# Altium schematic symbol library WR-USB_USB 2.0.SchLib: 29 symbols
Pins are listed as number, name and electrical type; pins without a type are passive.

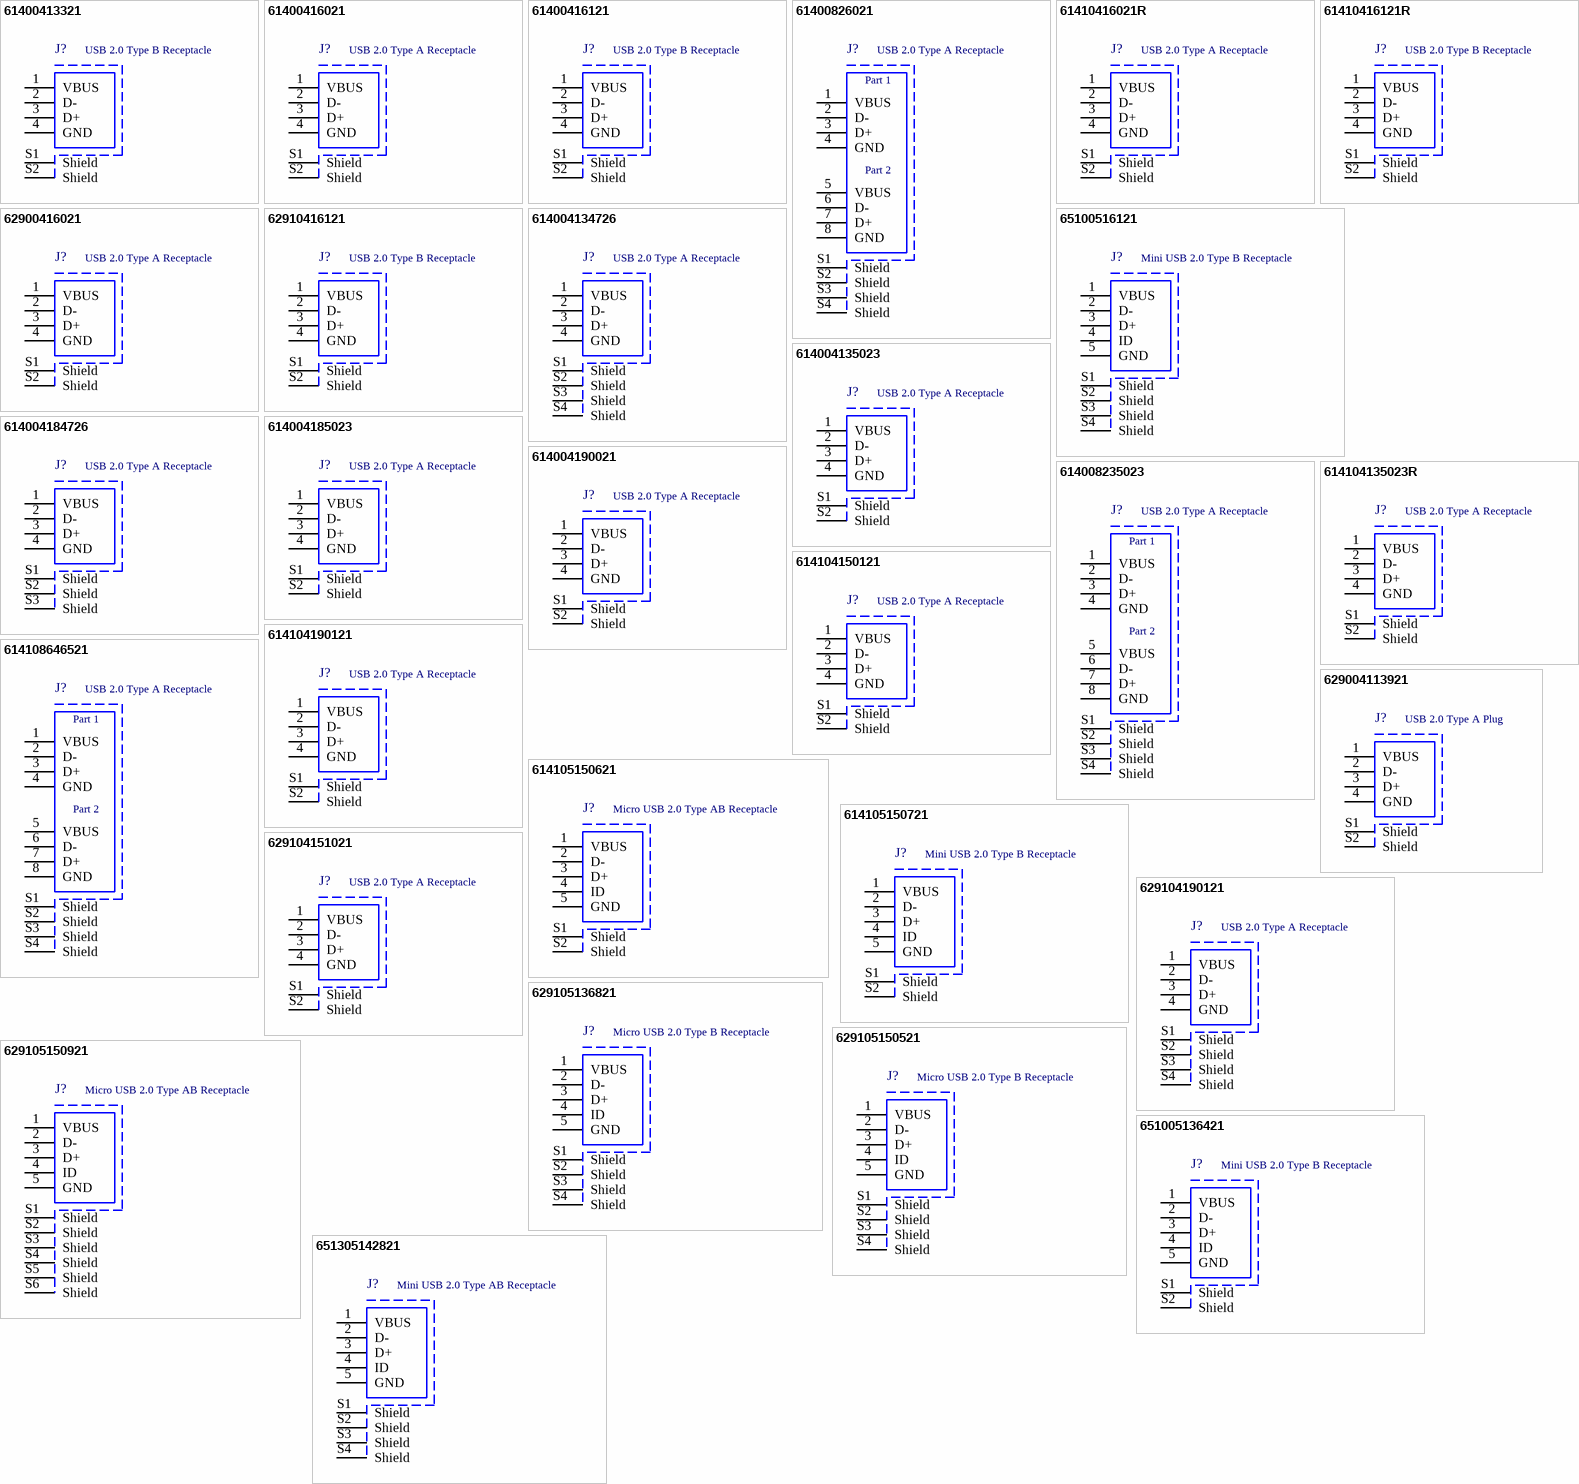
[diagram p0: symbols 61400413321 to 651305142821]

## 61400413321
designator J?, comment USB 2.0 Type B Receptacle
USB 2.0 Type B, Receptacle, Vertical, THT; Manufacturer: Wurth Elektronik; Manufacturer Part Number: 61400413321; Rated Current: 1.5A; Pin Number: 4; Interface Type: Type B; Working Voltage: 30VAC; ComponentLink1Description: Manufacturer; ComponentLink1URL: http://www.we-online.de; ComponentLink2Description: Datasheet; ComponentLink2URL: https://katalog.we-online.com/em/datasheet/61400413321.pdf; Published Date: September 2019; Gender: Receptacle; Type: Vertical; Packaging: Tray; Operating Temperature: -40 to +105degC; Mounting Technology: THT; Application: USB 2.0
footprint 61400413321
pins: 1 VBUS, 2 D-, 3 D+, 4 GND, S1 Shield, S2 Shield

## 61400416021
designator J?, comment USB 2.0 Type A Receptacle
USB 2.0 Type A, Receptacle, Horizontal, THT; Manufacturer: Wurth Elektronik; Manufacturer Part Number: 61400416021; Rated Current: 1.5A; Pin Number: 4; Interface Type: Type A; Working Voltage: 30VAC; ComponentLink1Description: Manufacturer; ComponentLink1URL: http://www.we-online.de; ComponentLink2Description: Datasheet; ComponentLink2URL: https://katalog.we-online.com/em/datasheet/61400416021.pdf; Published Date: September 2019; Gender: Receptacle; Type: Horizontal; Packaging: Tray; Operating Temperature: -40 to +105degC; Mounting Technology: THT; Application: USB 2.0
footprint 61400416021
pins: 1 VBUS, 2 D-, 3 D+, 4 GND, S1 Shield, S2 Shield

## 61400416121
designator J?, comment USB 2.0 Type B Receptacle
USB 2.0 Type B, Receptacle, Horizontal, THT; Manufacturer: Wurth Elektronik; Manufacturer Part Number: 61400416121; Rated Current: 1.5A; Pin Number: 4; Interface Type: Type B; Working Voltage: 30VAC; ComponentLink1Description: Manufacturer; ComponentLink1URL: http://www.we-online.de; ComponentLink2Description: Datasheet; ComponentLink2URL: https://katalog.we-online.com/em/datasheet/61400416121.pdf; Published Date: September 2019; Gender: Receptacle; Type: Horizontal; Packaging: Tray; Operating Temperature: -40 to +105degC; Mounting Technology: THT; Application: USB 2.0
footprint 61400416121
pins: 1 VBUS, 2 D-, 3 D+, 4 GND, S1 Shield, S2 Shield

## 61400826021
designator J?, comment USB 2.0 Type A Receptacle
USB 2.0 Type A, Receptacle, Horizontal, THT, Dual Stacked; Manufacturer: Wurth Elektronik; Manufacturer Part Number: 61400826021; Rated Current: 1.5A; Pin Number: 8; Interface Type: Type A; Working Voltage: 30VAC; ComponentLink1Description: Manufacturer; ComponentLink1URL: http://www.we-online.de; ComponentLink2Description: Datasheet; ComponentLink2URL: https://katalog.we-online.com/em/datasheet/61400826021.pdf; Published Date: September 2019; Gender: Receptacle; Type: Horizontal; Packaging: Tray; Operating Temperature: -40 to +105degC; Mounting Technology: THT; Application: USB 2.0
footprint 61400826021
pins: 1 VBUS, 2 D-, 3 D+, 4 GND, 5 VBUS, 6 D-, 7 D+, 8 GND, S1 Shield, S2 Shield, S3 Shield, S4 Shield
text: Part 1; Part 2

## 61410416021R
designator J?, comment USB 2.0 Type A Receptacle
USB 2.0 Type A, Receptacle, Horizontal, THR; Manufacturer: Wurth Elektronik; Manufacturer Part Number: 61410416021R; Rated Current: 1.5A; Pin Number: 4; Interface Type: Type A; Working Voltage: 30VAC; ComponentLink1Description: Manufacturer; ComponentLink1URL: http://www.we-online.de; ComponentLink2Description: Datasheet; ComponentLink2URL: https://katalog.we-online.com/em/datasheet/61410416021R.pdf; Published Date: September 2019; Gender: Receptacle; Type: Horizontal; Packaging: Tape and Reel; Operating Temperature: -55 to +85degC; Mounting Technology: THR; Application: USB 2.0
footprint 61410416021R
pins: 1 VBUS, 2 D-, 3 D+, 4 GND, S1 Shield, S2 Shield

## 61410416121R
designator J?, comment USB 2.0 Type B Receptacle
USB 2.0 Type B, Receptacle, Horizontal, THR; Manufacturer: Wurth Elektronik; Manufacturer Part Number: 61410416121R; Rated Current: 1.5A; Pin Number: 4; Interface Type: Type B; Working Voltage: 30VAC; ComponentLink1Description: Manufacturer; ComponentLink1URL: http://www.we-online.de; ComponentLink2Description: Datasheet; ComponentLink2URL: https://katalog.we-online.com/em/datasheet/61410416121R.pdf; Published Date: September 2019; Gender: Receptacle; Type: Horizontal; Packaging: Tape and Reel; Operating Temperature: -55 to +85degC; Mounting Technology: THR; Application: USB 2.0
footprint 61410416121R
pins: 1 VBUS, 2 D-, 3 D+, 4 GND, S1 Shield, S2 Shield

## 62900416021
designator J?, comment USB 2.0 Type A Receptacle
USB 2.0 Type A, Receptacle, Horizontal, SMT; Manufacturer: Wurth Elektronik; Manufacturer Part Number: 62900416021; Rated Current: 1.5A; Pin Number: 4; Interface Type: Type A; Working Voltage: 30VAC; ComponentLink1Description: Manufacturer; ComponentLink1URL: http://www.we-online.de; ComponentLink2Description: Datasheet; ComponentLink2URL: https://katalog.we-online.com/em/datasheet/62900416021.pdf; Published Date: September 2019; Gender: Receptacle; Type: Horizontal; Packaging: Tray; Operating Temperature: -40 to +105degC; Mounting Technology: SMT; Application: USB 2.0
footprint 62900416021
pins: 1 VBUS, 2 D-, 3 D+, 4 GND, S1 Shield, S2 Shield

## 62910416121
designator J?, comment USB 2.0 Type B Receptacle
USB 2.0 Type B, Receptacle, Horizontal, SMT; Manufacturer: Wurth Elektronik; Manufacturer Part Number: 62910416121; Rated Current: 1.5A; Pin Number: 4; Interface Type: Type B; Working Voltage: 30VAC; ComponentLink1Description: Manufacturer; ComponentLink1URL: http://www.we-online.de; ComponentLink2Description: Datasheet; ComponentLink2URL: https://katalog.we-online.com/em/datasheet/62910416121.pdf; Published Date: September 2019; Gender: Receptacle; Type: Horizontal; Packaging: Tape and Reel; Operating Temperature: -40 to +105degC; Mounting Technology: SMT; Application: USB 2.0
footprint 62910416121
pins: 1 VBUS, 2 D-, 3 D+, 4 GND, S1 Shield, S2 Shield

## 65100516121
designator J?, comment Mini USB 2.0 Type B Receptacle
Mini USB 2.0 Type B, Receptacle, Horizontal, SMT; Manufacturer: Wurth Elektronik; Manufacturer Part Number: 65100516121; Rated Current: 1A; Pin Number: 5; Interface Type: Type B; Working Voltage: 30VAC; ComponentLink1Description: Manufacturer; ComponentLink1URL: http://www.we-online.de; ComponentLink2Description: Datasheet; ComponentLink2URL: https://katalog.we-online.com/em/datasheet/65100516121.pdf; Published Date: September 2019; Gender: Receptacle; Type: Horizontal; Packaging: Tape and Reel; Operating Temperature: -40 to +105degC; Mounting Technology: SMT; Application: Mini USB 2.0
footprint 65100516121
pins: 1 VBUS, 2 D-, 3 D+, 4 ID, 5 GND, S1 Shield, S2 Shield, S3 Shield, S4 Shield

## 614004134726
designator J?, comment USB 2.0 Type A Receptacle
USB 2.0 Type A, Receptacle, Up Right, THT; Manufacturer: Wurth Elektronik; Manufacturer Part Number: 614004134726; Rated Current: 1.5A; Pin Number: 4; Interface Type: Type A; Working Voltage: 30VAC; ComponentLink1Description: Manufacturer; ComponentLink1URL: http://www.we-online.de; ComponentLink2Description: Datasheet; ComponentLink2URL: https://katalog.we-online.com/em/datasheet/614004134726.pdf; Published Date: September 2019; Gender: Receptacle; Type: Up Right; Packaging: Tray; Operating Temperature: -40 to +105degC; Mounting Technology: THT; Application: USB 2.0
footprint 614004134726
pins: 1 VBUS, 2 D-, 3 D+, 4 GND, S1 Shield, S2 Shield, S3 Shield, S4 Shield

## 614004135023
designator J?, comment USB 2.0 Type A Receptacle
USB 2.0 Type A, Receptacle, Vertical, THT; Manufacturer: Wurth Elektronik; Manufacturer Part Number: 614004135023; Rated Current: 1.5A; Pin Number: 4; Interface Type: Type A; Working Voltage: 30VAC; ComponentLink1Description: Manufacturer; ComponentLink1URL: http://www.we-online.de; ComponentLink2Description: Datasheet; ComponentLink2URL: https://katalog.we-online.com/em/datasheet/614004135023.pdf; Published Date: September 2019; Gender: Receptacle; Type: Vertical; Packaging: Tray; Operating Temperature: -40 to +105degC; Mounting Technology: THT; Application: USB 2.0
footprint 614004135023
pins: 1 VBUS, 2 D-, 3 D+, 4 GND, S1 Shield, S2 Shield

## 614004184726
designator J?, comment USB 2.0 Type A Receptacle
USB 2.0 Type A, Receptacle, Up Right - Short Type, THT; Manufacturer: Wurth Elektronik; Manufacturer Part Number: 614004184726; Rated Current: 2A; Pin Number: 4; Interface Type: Type A; Working Voltage: 30VAC; ComponentLink1Description: Manufacturer; ComponentLink1URL: http://www.we-online.de; ComponentLink2Description: Datasheet; ComponentLink2URL: https://katalog.we-online.com/em/datasheet/614004184726.pdf; Published Date: September 2019; Gender: Receptacle; Type: Up Right - Short Type; Packaging: Tray; Operating Temperature: -40 to +85degC; Mounting Technology: THT; Application: USB 2.0
footprint 614004184726
pins: 1 VBUS, 2 D-, 3 D+, 4 GND, S1 Shield, S2 Shield, S3 Shield

## 614004185023
designator J?, comment USB 2.0 Type A Receptacle
USB 2.0 Type A, Receptacle, Vertical - Short Type, THT; Manufacturer: Wurth Elektronik; Manufacturer Part Number: 614004185023; Rated Current: 1.5A; Pin Number: 4; Interface Type: Type A; Working Voltage: 30VAC; ComponentLink1Description: Manufacturer; ComponentLink1URL: http://www.we-online.de; ComponentLink2Description: Datasheet; ComponentLink2URL: https://katalog.we-online.com/em/datasheet/614004185023.pdf; Published Date: September 2019; Gender: Receptacle; Type: Vertical - Short Type; Packaging: Tray; Operating Temperature: -55 to +85degC; Mounting Technology: THT; Application: USB 2.0
footprint 614004185023
pins: 1 VBUS, 2 D-, 3 D+, 4 GND, S1 Shield, S2 Shield

## 614004190021
designator J?, comment USB 2.0 Type A Receptacle
USB 2.0 Type A, Receptacle, Horizontal, THT; Manufacturer: Wurth Elektronik; Manufacturer Part Number: 614004190021; Rated Current: 3A; Pin Number: 4; Interface Type: Type A; Working Voltage: 30VAC; ComponentLink1Description: Manufacturer; ComponentLink1URL: http://www.we-online.de; ComponentLink2Description: Datasheet; ComponentLink2URL: https://katalog.we-online.com/em/datasheet/614004190021.pdf; Published Date: September 2019; Gender: Receptacle; Type: Horizontal; Packaging: Tray; Operating Temperature: -40 to +85degC; Mounting Technology: THT; Application: USB 2.0
footprint 614004190021
pins: 1 VBUS, 2 D-, 3 D+, 4 GND, S1 Shield, S2 Shield

## 614008235023
designator J?, comment USB 2.0 Type A Receptacle
USB 2.0 Type A, Receptacle, Vertical, THT, Dual Stacked; Manufacturer: Wurth Elektronik; Manufacturer Part Number: 614008235023; Rated Current: 1.5A; Pin Number: 8; Interface Type: Type A; Working Voltage: 30VAC; ComponentLink1Description: Manufacturer; ComponentLink1URL: http://www.we-online.de; ComponentLink2Description: Datasheet; ComponentLink2URL: https://katalog.we-online.com/em/datasheet/614008235023.pdf; Published Date: September 2019; Gender: Receptacle; Type: Vertical; Packaging: Tray; Operating Temperature: -40 to +105degC; Mounting Technology: THT; Application: USB 2.0
footprint 614008235023
pins: 1 VBUS, 2 D-, 3 D+, 4 GND, 5 VBUS, 6 D-, 7 D+, 8 GND, S1 Shield, S2 Shield, S3 Shield, S4 Shield
text: Part 1; Part 2

## 614104135023R
designator J?, comment USB 2.0 Type A Receptacle
USB 2.0 Type A, Receptacle, Vertical, THR; Manufacturer: Wurth Elektronik; Manufacturer Part Number: 614104135023R; Rated Current: 1.5A; Pin Number: 4; Interface Type: Type A; Working Voltage: 30VAC; ComponentLink1Description: Manufacturer; ComponentLink1URL: http://www.we-online.de; ComponentLink2Description: Datasheet; ComponentLink2URL: https://katalog.we-online.com/em/datasheet/614104135023R.pdf; Published Date: September 2019; Gender: Receptacle; Type: Vertical; Packaging: Tape and Reel; Operating Temperature: -55 to +85degC; Mounting Technology: THR; Application: USB 2.0
footprint 614104135023R
pins: 1 VBUS, 2 D-, 3 D+, 4 GND, S1 Shield, S2 Shield

## 614104150121
designator J?, comment USB 2.0 Type A Receptacle
USB 2.0 Type A, Receptacle, Horizontal - Short Type, THT; Manufacturer: Wurth Elektronik; Manufacturer Part Number: 614104150121; Rated Current: 1.5A; Pin Number: 4; Interface Type: Type A; Working Voltage: 30VAC; ComponentLink1Description: Manufacturer; ComponentLink1URL: http://www.we-online.de; ComponentLink2Description: Datasheet; ComponentLink2URL: https://katalog.we-online.com/em/datasheet/614104150121.pdf; Published Date: September 2019; Gender: Receptacle; Type: Horizontal - Short Type; Packaging: Tape and Reel; Operating Temperature: -40 to +85degC; Mounting Technology: THT; Application: USB 2.0
footprint 614104150121
pins: 1 VBUS, 2 D-, 3 D+, 4 GND, S1 Shield, S2 Shield

## 614104190121
designator J?, comment USB 2.0 Type A Receptacle
USB 2.0 Type A, Receptacle, Horizontal - Short Type, THT; Manufacturer: Wurth Elektronik; Manufacturer Part Number: 614104190121; Rated Current: 1.5A; Pin Number: 4; Interface Type: Type A; Working Voltage: 30VAC; ComponentLink1Description: Manufacturer; ComponentLink1URL: http://www.we-online.de; ComponentLink2Description: Datasheet; ComponentLink2URL: https://katalog.we-online.com/em/datasheet/614104190121.pdf; Published Date: September 2019; Gender: Receptacle; Type: Horizontal - Short Type; Packaging: Tape and Reel; Operating Temperature: -55 to +85degC; Mounting Technology: THT; Application: USB 2.0
footprint 614104190121
pins: 1 VBUS, 2 D-, 3 D+, 4 GND, S1 Shield, S2 Shield

## 614105150621
designator J?, comment Micro USB 2.0 Type AB Receptacle
Micro USB 2.0 Type AB, Receptacle, Vertical, THT; Manufacturer: Wurth Elektronik; Manufacturer Part Number: 614105150621; Rated Current: 1.8A; Pin Number: 5; Interface Type: Type AB; Working Voltage: 30VAC; ComponentLink1Description: Manufacturer; ComponentLink1URL: http://www.we-online.de; ComponentLink2Description: Datasheet; ComponentLink2URL: https://katalog.we-online.com/em/datasheet/614105150621.pdf; Published Date: September 2019; Gender: Receptacle; Type: Vertical; Packaging: Tape and Reel; Operating Temperature: -40 to +85degC; Mounting Technology: THT; Application: Micro USB 2.0
footprint 614105150621
pins: 1 VBUS, 2 D-, 3 D+, 4 ID, 5 GND, S1 Shield, S2 Shield

## 614105150721
designator J?, comment Mini USB 2.0 Type B Receptacle
Mini USB 2.0 Type B, Receptacle, Vertical, THT; Manufacturer: Wurth Elektronik; Manufacturer Part Number: 614105150721; Rated Current: 1.8A; Pin Number: 5; Interface Type: Type B; Working Voltage: 30VAC; ComponentLink1Description: Manufacturer; ComponentLink1URL: http://www.we-online.de; ComponentLink2Description: Datasheet; ComponentLink2URL: https://katalog.we-online.com/em/datasheet/614105150721.pdf; Published Date: September 2019; Gender: Receptacle; Type: Vertical; Packaging: Tape and Reel; Operating Temperature: -40 to +85degC; Mounting Technology: THT; Application: Mini USB 2.0
footprint 614105150721
pins: 1 VBUS, 2 D-, 3 D+, 4 ID, 5 GND, S1 Shield, S2 Shield

## 614108646521
designator J?, comment USB 2.0 Type A Receptacle
USB 2.0 Type A, Receptacle, Horizontal, THR, Dual Stacked; Manufacturer: Wurth Elektronik; Manufacturer Part Number: 614108646521; Rated Current: 2.5A; Pin Number: 8; Interface Type: Type A; Working Voltage: 30VAC; ComponentLink1Description: Manufacturer; ComponentLink1URL: http://www.we-online.de; ComponentLink2Description: Datasheet; ComponentLink2URL: https://katalog.we-online.com/em/datasheet/614108646521.pdf; Published Date: November 2019; Gender: Receptacle; Type: Horizontal; Packaging: Tape and Reel; Operating Temperature: -40 to +85degC; Mounting Technology: THR; Application: USB 2.0
footprint 614108646521 (USB 2.0 Mid-Mount Dual Port)
pins: 1 VBUS, 2 D-, 3 D+, 4 GND, 5 VBUS, 6 D-, 7 D+, 8 GND, S1 Shield, S2 Shield, S3 Shield, S4 Shield
text: Part 1; Part 2

## 629004113921
designator J?, comment USB 2.0 Type A Plug
USB 2.0 Type A, Plug, Horizontal, SMT, with Clip; Manufacturer: Wurth Elektronik; Manufacturer Part Number: 629004113921; Rated Current: 1.5A; Pin Number: 4; Interface Type: Type A; Working Voltage: 30VAC; ComponentLink1Description: Manufacturer; ComponentLink1URL: http://www.we-online.de; ComponentLink2Description: Datasheet; ComponentLink2URL: https://katalog.we-online.com/em/datasheet/629004113921.pdf; Published Date: June 2020; Gender: Plug; Type: Horizontal; Packaging: Tube; Operating Temperature: -40 to +105degC; Mounting Technology: SMT; Application: USB 2.0
footprint 629004113921
pins: 1 VBUS, 2 D-, 3 D+, 4 GND, S1 Shield, S2 Shield

## 629104151021
designator J?, comment USB 2.0 Type A Receptacle
USB 2.0 Type A, Receptacle, Horizontal, SMT, with Pegs; Manufacturer: Wurth Elektronik; Manufacturer Part Number: 629104151021; Rated Current: 1.5A; Pin Number: 4; Interface Type: Type A; Working Voltage: 30VAC; ComponentLink1Description: Manufacturer; ComponentLink1URL: http://www.we-online.de; ComponentLink2Description: Datasheet; ComponentLink2URL: https://katalog.we-online.com/em/datasheet/629104151021.pdf; Published Date: September 2019; Gender: Receptacle; Type: Horizontal; Packaging: Tape and Reel; Operating Temperature: -40 to +85degC; Mounting Technology: SMT; Application: USB 2.0
footprint 629104151021
pins: 1 VBUS, 2 D-, 3 D+, 4 GND, S1 Shield, S2 Shield

## 629104190121
designator J?, comment USB 2.0 Type A Receptacle
USB 2.0 Type A, Receptacle, Horizontal - Short Type, SMT; Manufacturer: Wurth Elektronik; Manufacturer Part Number: 629104190121; Rated Current: 1.5A; Pin Number: 4; Interface Type: Type A; Working Voltage: 30VAC; ComponentLink1Description: Manufacturer; ComponentLink1URL: http://www.we-online.de; ComponentLink2Description: Datasheet; ComponentLink2URL: https://katalog.we-online.com/em/datasheet/629104190121.pdf; Published Date: September 2019; Gender: Receptacle; Type: Horizontal - Short Type; Packaging: Tape and Reel; Operating Temperature: -40 to +85degC; Mounting Technology: SMT; Application: USB 2.0
footprint 629104190121
pins: 1 VBUS, 2 D-, 3 D+, 4 GND, S1 Shield, S2 Shield, S3 Shield, S4 Shield

## 629105136821
designator J?, comment Micro USB 2.0 Type B Receptacle
Micro USB 2.0 Type B, Receptacle, Horizontal, SMT; Manufacturer: Wurth Elektronik; Manufacturer Part Number: 629105136821; Rated Current: 1A; Pin Number: 5; Interface Type: Type B; Working Voltage: 30VAC; ComponentLink1Description: Manufacturer; ComponentLink1URL: http://www.we-online.de; ComponentLink2Description: Datasheet; ComponentLink2URL: https://katalog.we-online.com/em/datasheet/629105136821.pdf; Published Date: September 2019; Gender: Receptacle; Type: Horizontal; Packaging: Tape and Reel; Operating Temperature: -40 to +105degC; Mounting Technology: SMT; Application: Micro USB 2.0
footprint 629105136821
pins: 1 VBUS, 2 D-, 3 D+, 4 ID, 5 GND, S1 Shield, S2 Shield, S3 Shield, S4 Shield

## 629105150521
designator J?, comment Micro USB 2.0 Type B Receptacle
Micro USB 2.0 Type B, Receptacle, Horizontal, SMT, with Pegs; Manufacturer: Wurth Elektronik; Manufacturer Part Number: 629105150521; Rated Current: 3A; Pin Number: 5; Interface Type: Type B; Working Voltage: 30VAC; ComponentLink1Description: Manufacturer; ComponentLink1URL: http://www.we-online.de; ComponentLink2Description: Datasheet; ComponentLink2URL: https://katalog.we-online.com/em/datasheet/629105150521.pdf; Published Date: September 2019; Gender: Receptacle; Type: Horizontal; Packaging: Tape and Reel; Operating Temperature: -40 to +85degC; Mounting Technology: SMT; Application: Micro USB 2.0
footprint 629105150521
pins: 1 VBUS, 2 D-, 3 D+, 4 ID, 5 GND, S1 Shield, S2 Shield, S3 Shield, S4 Shield

## 629105150921
designator J?, comment Micro USB 2.0 Type AB Receptacle
Micro USB 2.0 Type AB, Receptacle, Horizontal, SMT; Manufacturer: Wurth Elektronik; Manufacturer Part Number: 629105150921; Rated Current: 1.8A; Pin Number: 5; Interface Type: Type AB; Working Voltage: 30VAC; ComponentLink1Description: Manufacturer; ComponentLink1URL: http://www.we-online.de; ComponentLink2Description: Datasheet; ComponentLink2URL: https://katalog.we-online.com/em/datasheet/629105150921.pdf; Published Date: September 2019; Gender: Receptacle; Type: Horizontal; Packaging: Tape and Reel; Operating Temperature: -40 to +85degC; Mounting Technology: SMT; Application: Micro USB 2.0
footprint 629105150921
pins: 1 VBUS, 2 D-, 3 D+, 4 ID, 5 GND, S1 Shield, S2 Shield, S3 Shield, S4 Shield, S5 Shield, S6 Shield

## 651005136421
designator J?, comment Mini USB 2.0 Type B Receptacle
Mini USB 2.0 Type B, Receptacle, Vertical, THT; Manufacturer: Wurth Elektronik; Manufacturer Part Number: 651005136421; Rated Current: 1A; Pin Number: 5; Interface Type: Type B; Working Voltage: 30VAC; ComponentLink1Description: Manufacturer; ComponentLink1URL: http://www.we-online.de; ComponentLink2Description: Datasheet; ComponentLink2URL: https://katalog.we-online.com/em/datasheet/651005136421.pdf; Published Date: September 2019; Gender: Receptacle; Type: Vertical; Packaging: Tray; Operating Temperature: -40 to +105degC; Mounting Technology: THT; Application: Mini USB 2.0
footprint 651005136421
pins: 1 VBUS, 2 D-, 3 D+, 4 ID, 5 GND, S1 Shield, S2 Shield

## 651305142821
designator J?, comment Mini USB 2.0 Type AB Receptacle
Mini USB 2.0 Type AB, Receptacle, Horizontal, SMT; Manufacturer: Wurth Elektronik; Manufacturer Part Number: 651305142821; Rated Current: 1A; Pin Number: 5; Interface Type: Type AB; Working Voltage: 30VAC; ComponentLink1Description: Manufacturer; ComponentLink1URL: http://www.we-online.de; ComponentLink2Description: Datasheet; ComponentLink2URL: https://katalog.we-online.com/em/datasheet/651305142821.pdf; Published Date: September 2019; Gender: Receptacle; Type: Horizontal; Packaging: Tape and Reel; Operating Temperature: -40 to +105degC; Mounting Technology: SMT; Application: Mini USB 2.0
footprint 651305142821
pins: 1 VBUS, 2 D-, 3 D+, 4 ID, 5 GND, S1 Shield, S2 Shield, S3 Shield, S4 Shield